# EAGLE library part 1365-72 (library EW_Connectors)
DUAL ROW STRAIGHT HEADER 1364 SERIES. 1.27mm x 1.27mm. Without Fixing Post. SMT Source: http://www.leotronics.co.uk/Conexcon/Data%20Sheets/sec.%20A/1364ing.pdf
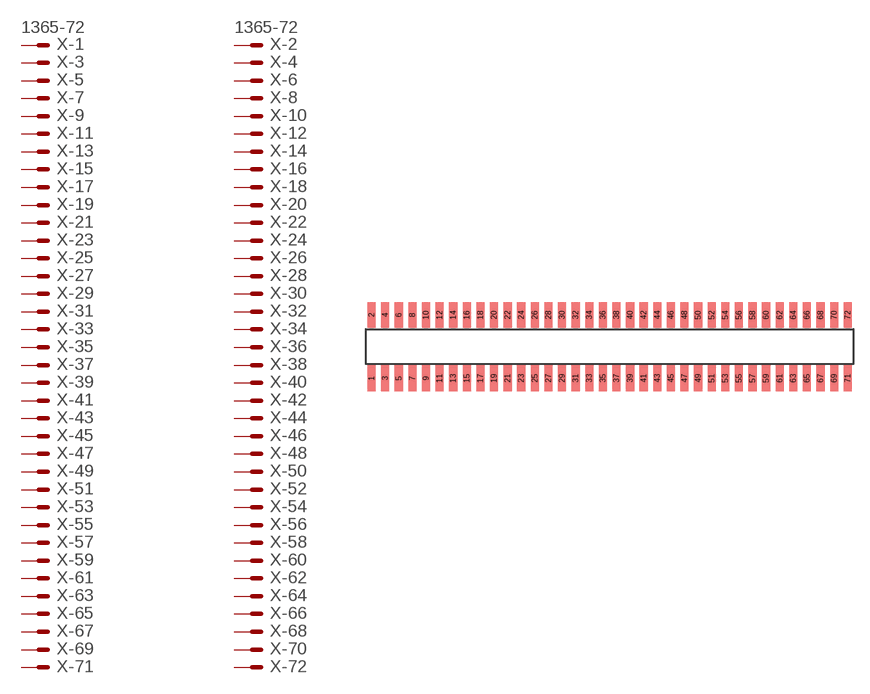
[diagram p201: symbol with the pads of 1365-72; footprint 1365-72]

Designator prefix X; gates -1=MVAL-44 -2=MVAL-44 -3=M-56 -4=M-56 -5=M-56 -6=M-56 -7=M-56 -8=M-56 -9=M-56 -10=M-56 -11=M-56 -12=M-56 -13=M-56 -14=M-56 -15=M-56 -16=M-56 -17=M-56 -18=M-56 -19=M-56 -20=M-56 -21=M-56 -22=M-56 -23=M-56 -24=M-56 -25=M-56 -26=M-56 -27=M-56 -28=M-56 -29=M-56 -30=M-56 -31=M-56 -32=M-56 -33=M-56 -34=M-56 -35=M-56 -36=M-56 -37=M-56 -38=M-56 -39=M-56 -40=M-56 -41=M-56 -42=M-56 -43=M-56 -44=M-56 -45=M-56 -46=M-56 -47=M-56 -48=M-56 -49=M-56 -50=M-56 -51=M-56 -52=M-56 -53=M-56 -54=M-56 -55=M-56 -56=M-56 -57=M-56 -58=M-56 -59=M-56 -60=M-56 -61=M-56 -62=M-56 -63=M-56 -64=M-56 -65=M-56 -66=M-56 -67=M-56 -68=M-56 -69=M-56 -70=M-56 -71=M-56 -72=M-56

## 1365-72 (OC_FARNELL: unknown; OC_NEWARK: unknown)  [1365-72]
1  -1:S  pas
2  -2:S  pas
3  -3:S  pas
4  -4:S  pas
5  -5:S  pas
6  -6:S  pas
7  -7:S  pas
8  -8:S  pas
9  -9:S  pas
10  -10:S  pas
11  -11:S  pas
12  -12:S  pas
13  -13:S  pas
14  -14:S  pas
15  -15:S  pas
16  -16:S  pas
17  -17:S  pas
18  -18:S  pas
19  -19:S  pas
20  -20:S  pas
21  -21:S  pas
22  -22:S  pas
23  -23:S  pas
24  -24:S  pas
25  -25:S  pas
26  -26:S  pas
27  -27:S  pas
28  -28:S  pas
29  -29:S  pas
30  -30:S  pas
31  -31:S  pas
32  -32:S  pas
33  -33:S  pas
34  -34:S  pas
35  -35:S  pas
36  -36:S  pas
37  -37:S  pas
38  -38:S  pas
39  -39:S  pas
40  -40:S  pas
41  -41:S  pas
42  -42:S  pas
43  -43:S  pas
44  -44:S  pas
45  -45:S  pas
46  -46:S  pas
47  -47:S  pas
48  -48:S  pas
49  -49:S  pas
50  -50:S  pas
51  -51:S  pas
52  -52:S  pas
53  -53:S  pas
54  -54:S  pas
55  -55:S  pas
56  -56:S  pas
57  -57:S  pas
58  -58:S  pas
59  -59:S  pas
60  -60:S  pas
61  -61:S  pas
62  -62:S  pas
63  -63:S  pas
64  -64:S  pas
65  -65:S  pas
66  -66:S  pas
67  -67:S  pas
68  -68:S  pas
69  -69:S  pas
70  -70:S  pas
71  -71:S  pas
72  -72:S  pas

## Footprint 1365-72 (pad centres in mm)
DUAL ROW STRAIGHT HEADER 1364 SERIES. 1.27mm x 1.27mm. Without Fixing Post. SMT Source: http://www.leotronics.co.uk/Conexcon/Data%20Sheets/sec.%20A/1364ing.pdf
smd 0.76 x 2.4: 1 -22.225,-2.95; 2 -22.225,2.95; 3 -20.955,-2.95; 4 -20.955,2.95; 5 -19.685,-2.95; 6 -19.685,2.95; 7 -18.415,-2.95; 8 -18.415,2.95; 9 -17.145,-2.95; 10 -17.145,2.95; 11 -15.875,-2.95; 12 -15.875,2.95; 13 -14.605,-2.95; 14 -14.605,2.95; 15 -13.335,-2.95; 16 -13.335,2.95; 17 -12.065,-2.95; 18 -12.065,2.95; 19 -10.795,-2.95; 20 -10.795,2.95; 21 -9.525,-2.95; 22 -9.525,2.95; 23 -8.255,-2.95; 24 -8.255,2.95; 25 -6.985,-2.95; 26 -6.985,2.95; 27 -5.715,-2.95; 28 -5.715,2.95; 29 -4.445,-2.95; 30 -4.445,2.95; 31 -3.175,-2.95; 32 -3.175,2.95; 33 -1.905,-2.95; 34 -1.905,2.95; 35 -0.635,-2.95; 36 -0.635,2.95; 37 0.635,-2.95; 38 0.635,2.95; 39 1.905,-2.95; 40 1.905,2.95; 41 3.175,-2.95; 42 3.175,2.95; 43 4.445,-2.95; 44 4.445,2.95; 45 5.715,-2.95; 46 5.715,2.95; 47 6.985,-2.95; 48 6.985,2.95; 49 8.255,-2.95; 50 8.255,2.95; 51 9.525,-2.95; 52 9.525,2.95; 53 10.795,-2.95; 54 10.795,2.95; 55 12.065,-2.95; 56 12.065,2.95; 57 13.335,-2.95; 58 13.335,2.95; 59 14.605,-2.95; 60 14.605,2.95; 61 15.875,-2.95; 62 15.875,2.95; 63 17.145,-2.95; 64 17.145,2.95; 65 18.415,-2.95; 66 18.415,2.95; 67 19.685,-2.95; 68 19.685,2.95; 69 20.955,-2.95; 70 20.955,2.95; 71 22.225,-2.95; 72 22.225,2.95